# Altium schematic symbol library PMEG6020AELRX.SchLib: 2 symbols
Pins are listed as number, name and electrical type; pins without a type are passive.

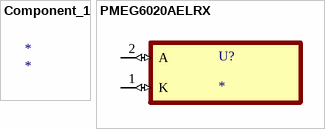
[diagram p0: symbols Component_1 to PMEG6020AELRX]

## Component_1
designator *

## PMEG6020AELRX
designator U?
MF: {'manufacturer': u'Nexperia USA'}; MP: PMEG6020AELRX; Availability: Unavailable; Value: *; Package: None; Price: None
footprint SODFL3517X110N
pins: 1 K (io), 2 A (io)